# Altium footprint library aiskylab-06IC-02Memory.PcbLib: 17 footprints (part 2 of 2)
Each footprint in its own frame and in the unit in brackets; x right, y up, seen from the top. Pads: shape width x height; smd on the part's side, far side on the other; paste and mask are expansions set on the pad; w line width, h text height; cw(c..) or ccw(c..) is an arc to the next point about the centre after c.
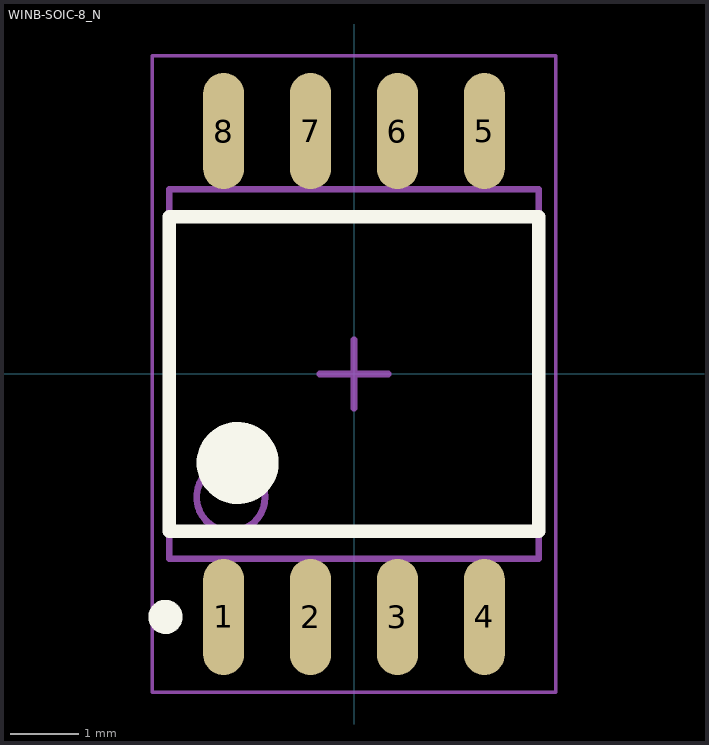
[diagram p1: the footprint, top view; thin cyan lines are the x and y axes]

## WINB-SOIC-8_N [mm] "SOIC, 8-Leads, Body 5.4x5.4mm, Pitch 1.27mm, IPC Medium Density"
height 2.16
pads (8):
  oval 0.6x1.7 smd: 1(-1.905,-3.55) 2(-0.635,-3.55) 3(0.635,-3.55) 4(1.905,-3.55) 5(1.905,3.55) 6(0.635,3.55) 7(-0.635,3.55) 8(-1.905,3.55)
Top Overlay:
  circle w0.6: c-1.7,-1.3 r0.3
  circle w0.25: c-2.755,-3.55 r0.125
  lines w0.2: -2.7,-2.3 -2.7,2.3 2.7,2.3 2.7,-2.3 -2.7,-2.3
Top Designator:
  text ".Designator" at -7.633,-0.508 h1.52
Top Assembly:
  circle w0.1: c-1.8,-1.8 r0.5
  lines w0.1: -2.7,-2.7 2.7,-2.7 2.7,2.7 -2.7,2.7 -2.7,-2.7
Top Component Center:
  lines w0.1: -0.5,0 0.5,0 ; 0,-0.5 0,0.5
Top Component Outline:
  lines w0.05: -2.95,-4.65 -2.95,4.65 2.95,4.65 2.95,-4.65 -2.95,-4.65
3D body "SO-8 208mil.STEP": height 1.5, standoff 0, extent -2.642,-4.014 2.642,4.014